# EAGLE library part 6520A_PIA (library atari)
6520A Peripheral Adapter
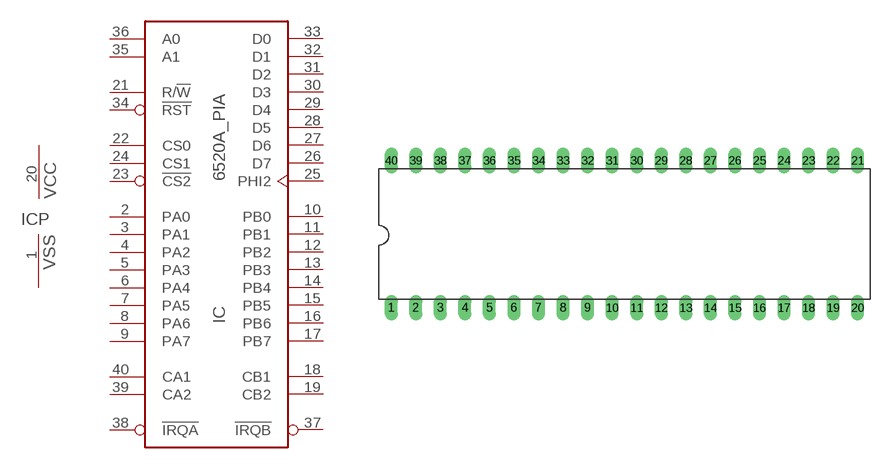
[diagram p7: symbol with the pads of DIL40; footprint DIL40]

Designator prefix IC; gates P=VCCVSS =6520A_PIA

## 6520A_PIA  [DIL40]
1  P:VSS  pwr
2  :PA0
3  :PA1
4  :PA2
5  :PA3
6  :PA4
7  :PA5
8  :PA6
9  :PA7
10  :PB0
11  :PB1
12  :PB2
13  :PB3
14  :PB4
15  :PB5
16  :PB6
17  :PB7
18  :CB1
19  :CB2
20  P:VCC  pwr
21  :R/!W  in
22  :CS0  in
23  :!CS2  in
24  :CS1  in
25  :PHI2  in
26  :D7
27  :D6
28  :D5
29  :D4
30  :D3
31  :D2
32  :D1
33  :D0
34  :!RST  in
35  :A1  in
36  :A0  in
37  :!IRQB  out
38  :!IRQA  out
39  :CA2
40  :CA1

## Footprint DIL40 (pad centres in mm)
drill 0.813 long: 1 -24.13,-7.62; 2 -21.59,-7.62; 3 -19.05,-7.62; 4 -16.51,-7.62; 5 -13.97,-7.62; 6 -11.43,-7.62; 7 -8.89,-7.62; 8 -6.35,-7.62; 9 -3.81,-7.62; 10 -1.27,-7.62; 11 1.27,-7.62; 12 3.81,-7.62; 13 6.35,-7.62; 14 8.89,-7.62; 15 11.43,-7.62; 16 13.97,-7.62; 17 16.51,-7.62; 18 19.05,-7.62; 19 21.59,-7.62; 20 24.13,-7.62; 21 24.13,7.62; 22 21.59,7.62; 23 19.05,7.62; 24 16.51,7.62; 25 13.97,7.62; 26 11.43,7.62; 27 8.89,7.62; 28 6.35,7.62; 29 3.81,7.62; 30 1.27,7.62; 31 -1.27,7.62; 32 -3.81,7.62; 33 -6.35,7.62; 34 -8.89,7.62; 35 -11.43,7.62; 36 -13.97,7.62; 37 -16.51,7.62; 38 -19.05,7.62; 39 -21.59,7.62; 40 -24.13,7.62